# Altium schematic symbol library MOSFET,P Ch,30V,3.8A.Schlib: 1 symbol
Pins are listed as number, name and electrical type; pins without a type are passive.

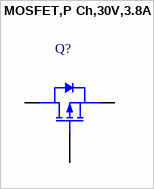
[diagram p0: symbol MOSFET,P Ch,30V,3.8A]

## MOSFET,P Ch,30V,3.8A
designator Q?
pins: 1 G, 2 S, 3 D